# Altium schematic symbol library Amplifier_Operational.SchLib: 414 symbols (part 2 of 5)
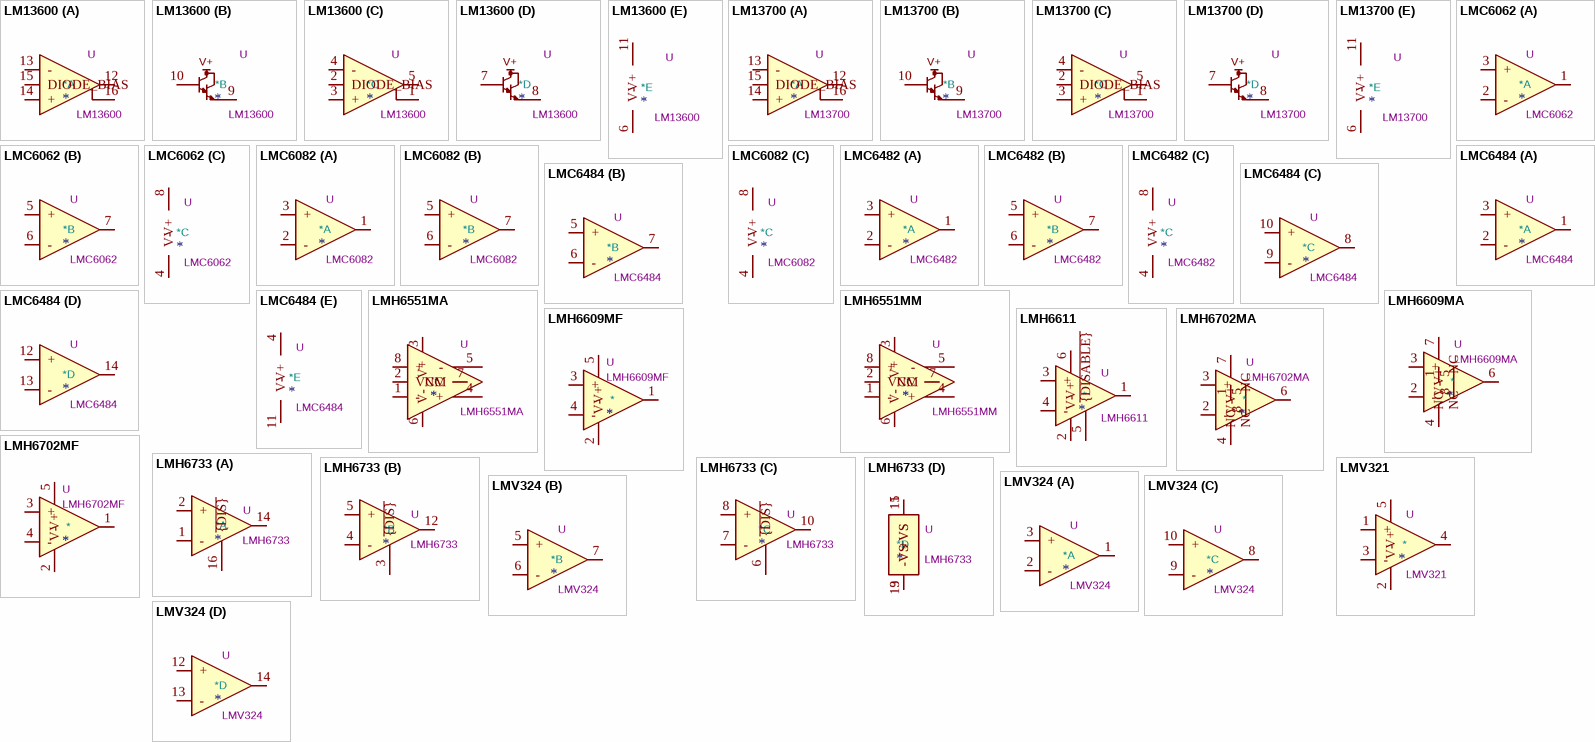
[diagram p24: symbols LM13600 to LMV324]

## LMC6082
designator *  value LMC6082  Reference: U
Precision CMOS Dual Operational Amplifier, DIP-8/SOIC-8; ki_keywords: dual opamp; ki_fp_filters: SOIC*3.9x4.9mm*P1.27mm* DIP*W7.62mm* TO*99* OnSemi*Micro8* TSSOP*3x3mm*P0.65mm* TSSOP*4.4x3mm*P0.65mm* MSOP*3x3mm*P0.65mm* SSOP*3.9x4.9mm*P0.635mm* LFCSP*2x2mm*P0.5mm* *SIP* SOIC*5.3x6.2mm*P1.27mm*; Datasheet: http://www.ti.com/lit/ds/symlink/lmc6082.pdf; Description_: Precision CMOS Dual Operational Amplifier, DIP-8/SOIC-8
part A pins: 1, 2 -, 3 +
part B pins: 5 +, 6 -, 7
part C pins: 4 V-, 8 V+

## LMC6482
designator *  value LMC6482  Reference: U
Dual CMOS Rail-to-Rail Input and Output Operational Amplifier, DIP-8/SOIC-8, SSOP-8; ki_keywords: dual opamp; ki_fp_filters: SOIC*3.9x4.9mm*P1.27mm* DIP*W7.62mm* TO*99* OnSemi*Micro8* TSSOP*3x3mm*P0.65mm* TSSOP*4.4x3mm*P0.65mm* MSOP*3x3mm*P0.65mm* SSOP*3.9x4.9mm*P0.635mm* LFCSP*2x2mm*P0.5mm* *SIP* SOIC*5.3x6.2mm*P1.27mm*; Datasheet: http://www.ti.com/lit/ds/symlink/lmc6482.pdf; Description_: Dual CMOS Rail-to-Rail Input and Output Operational Amplifier, DIP-8/SOIC-8, SSOP-8
part A pins: 1, 2 -, 3 +
part B pins: 5 +, 6 -, 7
part C pins: 4 V-, 8 V+

## LMC6484
designator *  value LMC6484  Reference: U
Quad CMOS Rail-to-Rail Input and Output Operational Amplifier, DIP-14/SOIC-14; ki_keywords: quad opamp; ki_fp_filters: SOIC*3.9x8.7mm*P1.27mm* DIP*W7.62mm* TSSOP*4.4x5mm*P0.65mm* SSOP*5.3x6.2mm*P0.65mm* MSOP*3x3mm*P0.5mm*; Datasheet: http://www.ti.com/lit/ds/symlink/lmc6484.pdf; Description_: Quad CMOS Rail-to-Rail Input and Output Operational Amplifier, DIP-14/SOIC-14
part A pins: 1, 2 -, 3 +
part B pins: 5 +, 6 -, 7
part C pins: 8, 9 -, 10 +
part D pins: 12 +, 13 -, 14
part E pins: 4 V+, 11 V-

## LMH6551MA
designator *  value LMH6551MA  Reference: U
Differential, High-Speed, Op Amp, SOIC-8; ki_keywords: differential opamp operational amplifier; ki_fp_filters: SOIC*3.9x4.9mm*P1.27mm*; Footprint: Package_SO:SOIC-8_3.9x4.9mm_P1.27mm; Datasheet: http://www.ti.com/lit/ds/symlink/lmh6551.pdf; Description_: Differential, High-Speed, Op Amp, SOIC-8
pins: 1 -, 2 VCM, 3 V+, 4 +, 5 -, 6 V-, 7 NC, 8 +

## LMH6551MM
designator *  value LMH6551MM  Reference: U
Differential, High-Speed, Op Amp, VSSOP-8; ki_keywords: differential opamp operational amplifier; ki_fp_filters: VSSOP*3x3mm*P0.65mm*; Footprint: Package_SO:VSSOP-8_3x3mm_P0.65mm; Datasheet: http://www.ti.com/lit/ds/symlink/lmh6551.pdf; Description_: Differential, High-Speed, Op Amp, VSSOP-8
pins: 1 -, 2 VCM, 3 V+, 4 +, 5 -, 6 V-, 7 NC, 8 +

## LMH6609MA
designator *  value LMH6609MA  Reference: U
900MHz Voltage Feedback Op Amp, SOIC-8; ki_keywords: opamp single wideband unity-gain stable; ki_fp_filters: SOIC*3.9x4.9mm*P1.27mm*; Footprint: Package_SO:SOIC-8_3.9x4.9mm_P1.27mm; Datasheet: http://www.ti.com/lit/ds/symlink/lmh6609.pdf; Description_: 900MHz Voltage Feedback Op Amp, SOIC-8
pins: 1 NC, 2 -, 3 +, 4 V-, 5 NC, 6, 7 V+, 8 NC

## LMH6609MF
designator *  value LMH6609MF  Reference: U
900MHz Voltage Feedback Op Amp, SOT-23-5; ki_keywords: opamp single wideband unity-gain stable; ki_fp_filters: SOT?23*; Footprint: Package_TO_SOT_SMD:SOT-23-5; Datasheet: http://www.ti.com/lit/ds/symlink/lmh6609.pdf; Description_: 900MHz Voltage Feedback Op Amp, SOT-23-5
pins: 1, 2 V-, 3 +, 4 -, 5 V+

## LMH6611
designator *  value LMH6611  Reference: U
Single Supply, 345 MHz, Rail-to-Rail Output, Amplifier, TSOT-23-6; ki_keywords: opamp operational amplifier single; ki_fp_filters: TSOT*23*; Footprint: Package_TO_SOT_SMD:TSOT-23-6; Datasheet: http://www.ti.com/lit/ds/symlink/lmh6612.pdf; Description_: Single Supply, 345 MHz, Rail-to-Rail Output, Amplifier, TSOT-23-6
pins: 1, 2 V-, 3 +, 4 -, 5 ~{{DISABLE}}, 6 V+

## LMH6702MA
designator *  value LMH6702MA  Reference: U
1.7 GHz Ultra-Low Distortion Wideband Op Amp, SOIC-8; ki_keywords: opamp single low distortion wideband; ki_fp_filters: SOIC*3.9x4.9mm*P1.27mm*; Footprint: Package_SO:SOIC-8_3.9x4.9mm_P1.27mm; Datasheet: http://www.ti.com/lit/ds/symlink/lmh6702.pdf; Description_: 1.7 GHz Ultra-Low Distortion Wideband Op Amp, SOIC-8
pins: 1 NC, 2 -, 3 +, 4 V-, 5 NC, 6, 7 V+, 8 NC

## LMH6702MF
designator *  value LMH6702MF  Reference: U
1.7 GHz Ultra-Low Distortion Wideband Op Amp, SOT-23-5; ki_keywords: opamp single low distortion wideband; ki_fp_filters: SOT?23*; Footprint: Package_TO_SOT_SMD:SOT-23-5; Datasheet: http://www.ti.com/lit/ds/symlink/lmh6702.pdf; Description_: 1.7 GHz Ultra-Low Distortion Wideband Op Amp, SOT-23-5
pins: 1, 2 V-, 3 +, 4 -, 5 V+

## LMH6733
designator *  value LMH6733  Reference: U
1.0 GHz GBW Triple Operational Amplifier, 3..12V single supply or ±1.5V...6V dual supply , SSOP-16; ki_keywords: opamp rf hf; ki_fp_filters: SSOP*P0.635mm*; Footprint: Package_SO:SSOP-16_3.9x4.9mm_P0.635mm; Datasheet: https://www.ti.com/lit/ds/symlink/lmh6733.pdf; Description_: 1.0 GHz GBW Triple Operational Amplifier, 3..12V single supply or ±1.5V...6V dual supply , SSOP-16
part A pins: 1 -, 2 +, 14, 16 ~{{DIS}}
part B pins: 3 ~{{DIS}}, 4 -, 5 +, 12
part C pins: 6 ~{{DIS}}, 7 -, 8 +, 10
part D pins: 9 -VS, 11 +VS, 13 -VS, 15 +VS

## LMV321
designator *  value LMV321  Reference: U
Low-Voltage Rail-to-Rail Output Operational Amplifiers, SOT-23-5/SC-70-5; ki_keywords: single opamp; ki_fp_filters: SOT?23* *SC*70*; Datasheet: http://www.ti.com/lit/ds/symlink/lmv324.pdf; Description_: Low-Voltage Rail-to-Rail Output Operational Amplifiers, SOT-23-5/SC-70-5
pins: 1 +, 2 V-, 3 -, 4, 5 V+

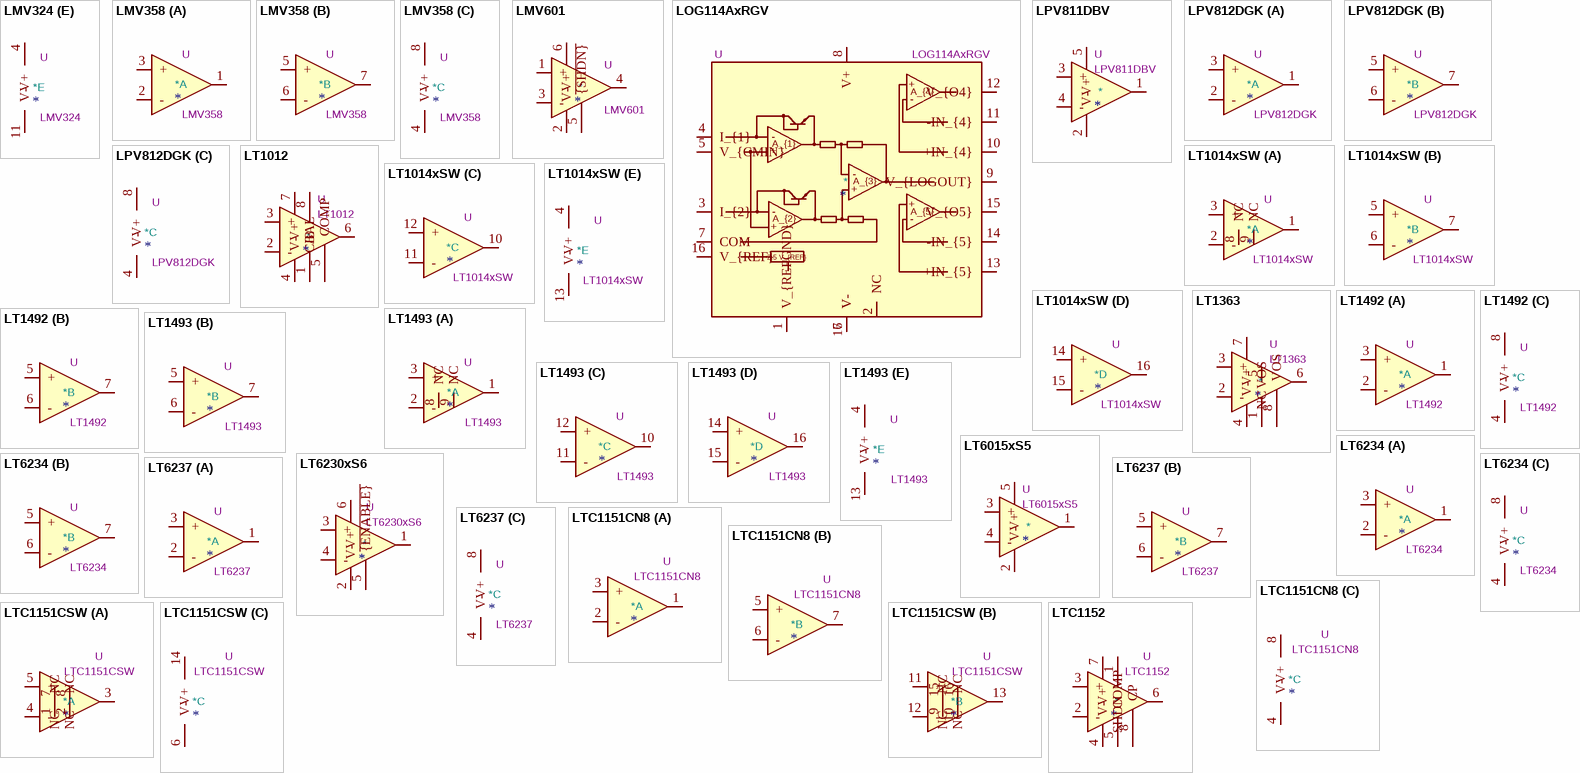
[diagram p6: symbols LMV324 to LTC1152]

## LMV324
designator *  value LMV324  Reference: U
Quad Low-Voltage Rail-to-Rail Output Operational Amplifier, SOIC-14/SSOP-14; ki_keywords: quad opamp; ki_fp_filters: SOIC*3.9x8.7mm*P1.27mm* DIP*W7.62mm* TSSOP*4.4x5mm*P0.65mm* SSOP*5.3x6.2mm*P0.65mm* MSOP*3x3mm*P0.5mm*; Datasheet: http://www.ti.com/lit/ds/symlink/lmv324.pdf; Description_: Quad Low-Voltage Rail-to-Rail Output Operational Amplifier, SOIC-14/SSOP-14
part A pins: 1, 2 -, 3 +
part B pins: 5 +, 6 -, 7
part C pins: 8, 9 -, 10 +
part D pins: 12 +, 13 -, 14
part E pins: 4 V+, 11 V-

## LMV358
designator *  value LMV358  Reference: U
Dual Low-Voltage Rail-to-Rail Output Operational Amplifiers, SOIC-8/SSOP-8; ki_keywords: single opamp; ki_fp_filters: SOIC*3.9x4.9mm*P1.27mm* DIP*W7.62mm* TO*99* OnSemi*Micro8* TSSOP*3x3mm*P0.65mm* TSSOP*4.4x3mm*P0.65mm* MSOP*3x3mm*P0.65mm* SSOP*3.9x4.9mm*P0.635mm* LFCSP*2x2mm*P0.5mm* *SIP* SOIC*5.3x6.2mm*P1.27mm*; Datasheet: http://www.ti.com/lit/ds/symlink/lmv324.pdf; Description_: Dual Low-Voltage Rail-to-Rail Output Operational Amplifiers, SOIC-8/SSOP-8
part A pins: 1, 2 -, 3 +
part B pins: 5 +, 6 -, 7
part C pins: 4 V-, 8 V+

## LMV601
designator *  value LMV601  Reference: U
1MHz, Low-Power, General-Purpose, 2.7V Operational Amplifiers, SC-70-6; ki_keywords: single opamp; ki_fp_filters: *SC*70*; Footprint: Package_TO_SOT_SMD:SOT-363_SC-70-6; Datasheet: http://www.ti.com/lit/ds/symlink/lmv601.pdf; Description_: 1MHz, Low-Power, General-Purpose, 2.7V Operational Amplifiers, SC-70-6
pins: 1 +, 2 V-, 3 -, 4, 5 ~{{SHDN}}, 6 V+

## LOG114AxRGV
designator *  value LOG114AxRGV  Reference: U
Logarithmic difference amplifer, Transimpedance input, 100pA to 10mA, integrated 2.5V reference, single or dual supply: +-5V, +5V, VQFN-16; ki_keywords: logamp texas ti tia; ki_fp_filters: Texas*RGV0016A*; Footprint: Package_DFN_QFN:Texas_RGV0016A_VQFN-16-1EP_4x4mm_P0.65mm_EP2.1x2.1mm; Datasheet: https://www.ti.com/lit/ds/symlink/log114.pdf; Description_: Logarithmic difference amplifer, Transimpedance input, 100pA to 10mA, integrated 2.5V reference, single or dual supply: +-5V, +5V, VQFN-16
pins: 1 V_{REFGND}, 2 NC, 3 I_{2}, 4 I_{1}, 5 V_{CMIN}, 6 V-, 7 COM, 8 V+, 9 V_{LOGOUT}, 10 +IN_{4}, 11 -IN_{4}, 12 V_{O4}, 13 +IN_{5}, 14 -IN_{5}, 15 V_{O5}, 16 V_{REF}, 17 V-
text: +; A_{4}; -; A_{1}; A_{3}; A_{5}; A_{2}; 2.5 V_{REF}

## LPV811DBV
designator *  value LPV811DBV  Reference: U
Single operational amplifier, 8kHz GBW, 425 nA/channel quiescent, 100 fA input bias, 300 uV offset max, 1 uV/C, SOT-23-5; ki_keywords: single opamp low-power rail-to-rail; ki_fp_filters: SOT?23*; Footprint: Package_TO_SOT_SMD:SOT-23-5; Datasheet: https://www.ti.com/lit/ds/symlink/lpv812.pdf; Description_: Single operational amplifier, 8kHz GBW, 425 nA/channel quiescent, 100 fA input bias, 300 uV offset max, 1 uV/C, SOT-23-5
pins: 1, 2 V-, 3 +, 4 -, 5 V+

## LPV812DGK
designator *  value LPV812DGK  Reference: U
Dual operational amplifier, 8kHz GBW, 425 nA/channel quiescent, 100 fA input bias, 300 uV offset max, 1 uV/C, VSSOP-8; ki_keywords: dual opamp low-power rail-to-rail; ki_fp_filters: VSSOP*3x3mm*P0.65mm*; Footprint: Package_SO:VSSOP-8_3x3mm_P0.65mm; Datasheet: https://www.ti.com/lit/ds/symlink/lpv812.pdf; Description_: Dual operational amplifier, 8kHz GBW, 425 nA/channel quiescent, 100 fA input bias, 300 uV offset max, 1 uV/C, VSSOP-8
part A pins: 1, 2 -, 3 +
part B pins: 5 +, 6 -, 7
part C pins: 4 V-, 8 V+

## LT1012
designator *  value LT1012  Reference: U
Single Picoamp Input Current, Microvolt Offset, Low Noise Op Amp, DIP-8/SOIC-8/TO-5-8; ki_keywords: single opamp; ki_fp_filters: DIP*W7.62mm* SOIC*3.9x4.9mm*P1.27mm* TO?5*; Datasheet: https://www.analog.com/media/en/technical-documentation/data-sheets/lt1012.pdf; Description_: Single Picoamp Input Current, Microvolt Offset, Low Noise Op Amp, DIP-8/SOIC-8/TO-5-8
pins: 1 BAL, 2 -, 3 +, 4 V-, 5 COMP, 6, 7 V+, 8 C/B

## LT1014xSW
designator *  value LT1014xSW  Reference: U
Quad Precision Op-Amp, 150µV max offset voltage, SOIC-16; ki_keywords: Linear-Technology operational-amplifier; ki_fp_filters: *SOIC*7.5x10.3mm*P1.27mm*; Footprint: Package_SO:SOIC-16W_7.5x10.3mm_P1.27mm; Datasheet: https://www.analog.com/media/en/technical-documentation/data-sheets/lt1013-lt1014.pdf; Description_: Quad Precision Op-Amp, 150µV max offset voltage, SOIC-16
part A pins: 1, 2 -, 3 +, 8 NC, 9 NC
part B pins: 5 +, 6 -, 7
part C pins: 10, 11 -, 12 +
part D pins: 14 +, 15 -, 16
part E pins: 4 V+, 13 V-

## LT1363
designator *  value LT1363  Reference: U
70MHz, 1000V/µs Operational Amplifier, DIP-8/SOIC-8; ki_keywords: single opamp; ki_fp_filters: DIP*W7.62mm* SOIC*3.9x4.9mm*P1.27mm* TO*99*; Datasheet: https://www.analog.com/media/en/technical-documentation/data-sheets/1363fa.pdf; Description_: 70MHz, 1000V/µs Operational Amplifier, DIP-8/SOIC-8
pins: 1 VOS, 2 -, 3 +, 4 V-, 5 NC, 6, 7 V+, 8 VOS

## LT1492
designator *  value LT1492  Reference: U
5MHz, 3V/µs, Low Power, Single Supply, Dual Precision Op Amps, DIP-8/SOIC-8; ki_keywords: dual opamp; ki_fp_filters: SOIC*3.9x4.9mm*P1.27mm* DIP*W7.62mm* TO*99* OnSemi*Micro8* TSSOP*3x3mm*P0.65mm* TSSOP*4.4x3mm*P0.65mm* MSOP*3x3mm*P0.65mm* SSOP*3.9x4.9mm*P0.635mm* LFCSP*2x2mm*P0.5mm* *SIP* SOIC*5.3x6.2mm*P1.27mm*; Datasheet: https://www.analog.com/media/en/technical-documentation/data-sheets/14923f.pdf; Description_: 5MHz, 3V/µs, Low Power, Single Supply, Dual Precision Op Amps, DIP-8/SOIC-8
part A pins: 1, 2 -, 3 +
part B pins: 5 +, 6 -, 7
part C pins: 4 V-, 8 V+

## LT1493
designator *  value LT1493  Reference: U
5MHz, 3V/µs, Low Power, Single Supply, Quad Precision Op Amps, SOIC-16; ki_keywords: quad opamp; ki_fp_filters: SSOP*3.9x4.9mm*P0.635mm* SOIC*3.9x9.9mm*P1.27mm* QSOP*3.9x4.9mm*P0.635mm*; Datasheet: https://www.analog.com/media/en/technical-documentation/data-sheets/14923f.pdf; Description_: 5MHz, 3V/µs, Low Power, Single Supply, Quad Precision Op Amps, SOIC-16
part A pins: 1, 2 -, 3 +, 8 NC, 9 NC
part B pins: 5 +, 6 -, 7
part C pins: 10, 11 -, 12 +
part D pins: 14 +, 15 -, 16
part E pins: 4 V+, 13 V-

## LT6015xS5
designator *  value LT6015xS5  Reference: U
3.2MHz, 0.8V/us, Low Power, Over-The-Top Precision Op Amp, SOT-23-5; ki_keywords: single opamp; ki_fp_filters: SOT?23*; Footprint: Package_TO_SOT_SMD:SOT-23-5; Datasheet: https://www.analog.com/media/en/technical-documentation/data-sheets/601567ff.pdf; Description_: 3.2MHz, 0.8V/us, Low Power, Over-The-Top Precision Op Amp, SOT-23-5
pins: 1, 2 V-, 3 +, 4 -, 5 V+

## LT6230xS6
designator *  value LT6230xS6  Reference: U
215 MHz, Rail-to-Rail Output, Amplifier, TSOT-23-6; ki_keywords: opamp operational amplifier single; ki_fp_filters: TSOT*23*; Footprint: Package_TO_SOT_SMD:TSOT-23-6; Datasheet: https://www.analog.com/media/en/technical-documentation/data-sheets/623012fc.pdf; Description_: 215 MHz, Rail-to-Rail Output, Amplifier, TSOT-23-6
pins: 1, 2 V-, 3 +, 4 -, 5 ~{{ENABLE}}, 6 V+

## LT6234
designator *  value LT6234  Reference: U
Dual 60MHz, Rail-to-Rail Output, 1.9nV/√Hz, 1.2mA, Operational Amplifier, SOIC-8; ki_keywords: dual opamp; ki_fp_filters: SOIC*3.9x4.9mm*P1.27mm* DIP*W7.62mm* TO*99* OnSemi*Micro8* TSSOP*3x3mm*P0.65mm* TSSOP*4.4x3mm*P0.65mm* MSOP*3x3mm*P0.65mm* SSOP*3.9x4.9mm*P0.635mm* LFCSP*2x2mm*P0.5mm* *SIP* SOIC*5.3x6.2mm*P1.27mm*; Datasheet: https://www.analog.com/media/en/technical-documentation/data-sheets/623345fc.pdf; Description_: Dual 60MHz, Rail-to-Rail Output, 1.9nV/√Hz, 1.2mA, Operational Amplifier, SOIC-8
part A pins: 1, 2 -, 3 +
part B pins: 5 +, 6 -, 7
part C pins: 4 V-, 8 V+

## LT6237
designator *  value LT6237  Reference: U
Dual 215MHz, Rail-to-Rail Output, 1.1nV/√Hz, 3.5mA, Operational Amplifier, MSOP-8/DFN-8; ki_keywords: dual opamp; ki_fp_filters: SOIC*3.9x4.9mm*P1.27mm* DIP*W7.62mm* TO*99* OnSemi*Micro8* TSSOP*3x3mm*P0.65mm* TSSOP*4.4x3mm*P0.65mm* MSOP*3x3mm*P0.65mm* SSOP*3.9x4.9mm*P0.635mm* LFCSP*2x2mm*P0.5mm* *SIP* SOIC*5.3x6.2mm*P1.27mm*; Datasheet: https://www.analog.com/media/en/technical-documentation/data-sheets/623637fb.pdf; Description_: Dual 215MHz, Rail-to-Rail Output, 1.1nV/√Hz, 3.5mA, Operational Amplifier, MSOP-8/DFN-8
part A pins: 1, 2 -, 3 +
part B pins: 5 +, 6 -, 7
part C pins: 4 V-, 8 V+

## LTC1151CN8
designator *  value LTC1151CN8  Reference: U
Dual ±15V, Zero-Drift, Operational Amplifier, DIP-8; ki_keywords: dual opamp; ki_fp_filters: DIP*W7.62mm*; Footprint: Package_DIP:DIP-8_W7.62mm; Datasheet: https://www.analog.com/media/en/technical-documentation/data-sheets/1151fa.pdf; Description_: Dual ±15V, Zero-Drift, Operational Amplifier, DIP-8
part A pins: 1, 2 -, 3 +
part B pins: 5 +, 6 -, 7
part C pins: 4 V-, 8 V+

## LTC1151CSW
designator *  value LTC1151CSW  Reference: U
Dual ±15V, Zero-Drift, Operational Amplifier, SOIC-16W; ki_keywords: dual opamp; ki_fp_filters: SOIC*7.5x10.3mm*P1.27mm*; Footprint: Package_SO:SOIC-16W_7.5x10.3mm_P1.27mm; Datasheet: https://www.analog.com/media/en/technical-documentation/data-sheets/1151fa.pdf; Description_: Dual ±15V, Zero-Drift, Operational Amplifier, SOIC-16W
part A pins: 1 NC, 2 NC, 3, 4 -, 5 +, 7 NC, 8 NC
part B pins: 9 NC, 10 NC, 11 +, 12 -, 13, 15 NC, 16 NC
part C pins: 6 V-, 14 V+

## LTC1152
designator *  value LTC1152  Reference: U
Rail-to-Rail Input, Rail-to-Rail Output, Zero-Drift Op Amp, DIP-8, SOIC-8; ki_keywords: single opamp; ki_fp_filters: SOIC*3.9x4.9mm*P1.27mm* DIP*W7.62mm*; Datasheet: https://www.analog.com/media/en/technical-documentation/data-sheets/lt1152.pdf; Description_: Rail-to-Rail Input, Rail-to-Rail Output, Zero-Drift Op Amp, DIP-8, SOIC-8
pins: 1 SHDN, 2 -, 3 +, 4 V-, 5 COMP, 6, 7 V+, 8 CP

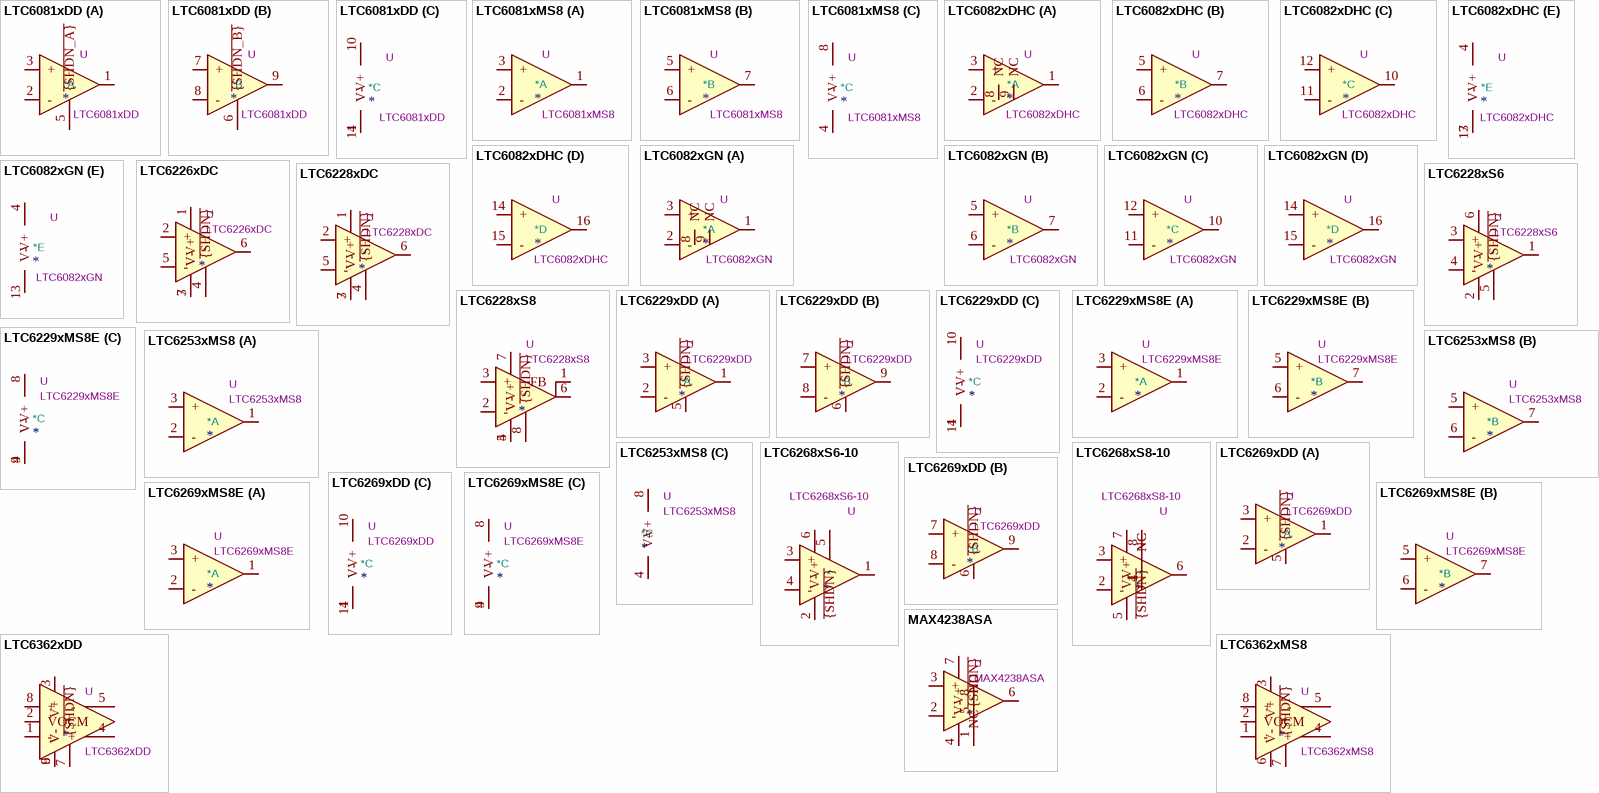
[diagram p7: symbols LTC6081xDD to MAX4238ASA]

## LTC6081xDD
designator *  value LTC6081xDD  Reference: U
Precision Dual CMOS Rail-to-Rail Input/Output Amplifiers, DFN-10; ki_keywords: dual opamp; ki_fp_filters: DFN*3x3mm*P0.5mm*; Footprint: Package_DFN_QFN:DFN-10-1EP_3x3mm_P0.5mm_EP1.55x2.48mm; Datasheet: https://www.analog.com/media/en/technical-documentation/data-sheets/60812fd.pdf; Description_: Precision Dual CMOS Rail-to-Rail Input/Output Amplifiers, DFN-10
part A pins: 1, 2 -, 3 +, 5 ~{{SHDN_A}}
part B pins: 6 ~{{SHDN_B}}, 7 +, 8 -, 9
part C pins: 4 V-, 10 V+, 11 V-

## LTC6081xMS8
designator *  value LTC6081xMS8  Reference: U
Precision Dual CMOS Rail-to-Rail Input/Output Amplifiers, MSOP-8; ki_keywords: dual opamp; ki_fp_filters: SOIC*3.9x4.9mm*P1.27mm* DIP*W7.62mm* TO*99* OnSemi*Micro8* TSSOP*3x3mm*P0.65mm* TSSOP*4.4x3mm*P0.65mm* MSOP*3x3mm*P0.65mm* SSOP*3.9x4.9mm*P0.635mm* LFCSP*2x2mm*P0.5mm* *SIP* SOIC*5.3x6.2mm*P1.27mm*; Datasheet: https://www.analog.com/media/en/technical-documentation/data-sheets/60812fd.pdf; Description_: Precision Dual CMOS Rail-to-Rail Input/Output Amplifiers, MSOP-8
part A pins: 1, 2 -, 3 +
part B pins: 5 +, 6 -, 7
part C pins: 4 V-, 8 V+

## LTC6082xDHC
designator *  value LTC6082xDHC  Reference: U
Precision Quad CMOS Rail-to-Rail Input/Output Amplifiers, DFN-16; ki_keywords: quad opamp; ki_fp_filters: DFN*3x5mm*P0.5mm*; Footprint: Package_DFN_QFN:DFN-16-1EP_3x5mm_P0.5mm_EP1.66x4.4mm; Datasheet: https://www.analog.com/media/en/technical-documentation/data-sheets/60812fd.pdf; Description_: Precision Quad CMOS Rail-to-Rail Input/Output Amplifiers, DFN-16
part A pins: 1, 2 -, 3 +, 8 NC, 9 NC
part B pins: 5 +, 6 -, 7
part C pins: 10, 11 -, 12 +
part D pins: 14 +, 15 -, 16
part E pins: 4 V+, 13 V-, 17 V-

## LTC6082xGN
designator *  value LTC6082xGN  Reference: U
Precision Quad CMOS Rail-to-Rail Input/Output Amplifiers, SSOP-16; ki_keywords: quad opamp; ki_fp_filters: SSOP*3.9x4.9mm*P0.635mm* SOIC*3.9x9.9mm*P1.27mm* QSOP*3.9x4.9mm*P0.635mm*; Datasheet: https://www.analog.com/media/en/technical-documentation/data-sheets/60812fd.pdf; Description_: Precision Quad CMOS Rail-to-Rail Input/Output Amplifiers, SSOP-16
part A pins: 1, 2 -, 3 +, 8 NC, 9 NC
part B pins: 5 +, 6 -, 7
part C pins: 10, 11 -, 12 +
part D pins: 14 +, 15 -, 16
part E pins: 4 V+, 13 V-

## LTC6226xDC
designator *  value LTC6226xDC  Reference: U
420MHz GBW, 180V/μs, 1nV/√Hz, RRO, 95μV max offset, 2.8..11.75V OpAmp with shutdown, WDFN-6 (WSON-6); ki_keywords: single operational amplifier Linear-Technology Analog-Devices Low-Distortion Rail-to-Rail-Output; ki_fp_filters: *DFN*2x2mm*P0.5mm*EP0.6x1.37mm*; Footprint: Package_DFN_QFN:DFN-6-1EP_2x2mm_P0.5mm_EP0.6x1.37mm; Datasheet: https://www.analog.com/media/en/technical-documentation/data-sheets/ltc6226-6227.pdf; Description_: 420MHz GBW, 180V/μs, 1nV/√Hz, RRO, 95μV max offset, 2.8..11.75V OpAmp with shutdown, WDFN-6 (WSON-6)
pins: 1 V+, 2 +, 3 V-, 4 ~{{SHDN}}, 5 -, 6, 7 V-

## LTC6228xDC
designator *  value LTC6228xDC  Reference: U
Low Distortion Rail-to-Rail Output Op Amp with Shutdown, DFN-6; ki_keywords: single opamp; ki_fp_filters: DFN*1EP*2x2mm*P0.5mm*; Footprint: Package_DFN_QFN:DFN-6-1EP_2x2mm_P0.5mm_EP0.6x1.37mm; Datasheet: https://www.analog.com/media/en/technical-documentation/data-sheets/LTC6228-6229.pdf; Description_: Low Distortion Rail-to-Rail Output Op Amp with Shutdown, DFN-6
pins: 1 V+, 2 +, 3 V-, 4 ~{{SHDN}}, 5 -, 6, 7 V-

## LTC6228xS6
designator *  value LTC6228xS6  Reference: U
Low Distortion Rail-to-Rail Output Op Amp with Shutdown, TSOT-23-6; ki_keywords: single opamp; ki_fp_filters: TSOT?23*; Footprint: Package_TO_SOT_SMD:TSOT-23-6; Datasheet: https://www.analog.com/media/en/technical-documentation/data-sheets/LTC6228-6229.pdf; Description_: Low Distortion Rail-to-Rail Output Op Amp with Shutdown, TSOT-23-6
pins: 1, 2 V-, 3 +, 4 -, 5 ~{{SHDN}}, 6 V+

## LTC6228xS8
designator *  value LTC6228xS8  Reference: U
Low Distortion Rail-to-Rail Output Op Amp with Shutdown, SO-8; ki_keywords: single opamp; ki_fp_filters: SO*3.9x4.9mm*P1.27mm*; Footprint: Package_SO:SO-8_3.9x4.9mm_P1.27mm; Datasheet: https://www.analog.com/media/en/technical-documentation/data-sheets/LTC6228-6229.pdf; Description_: Low Distortion Rail-to-Rail Output Op Amp with Shutdown, SO-8
pins: 1 FB, 2 -, 3 +, 4 V-, 5 V-, 6, 7 V+, 8 ~{{SHDN}}

## LTC6229xDD
designator *  value LTC6229xDD  Reference: U
Low Distortion Rail-to-Rail Output Op Amps with Shutdown, DFN-10; ki_keywords: dual opamp; ki_fp_filters: *DFN*1EP*3x3mm*P0.5mm*EP1.65x2.38mm*; Footprint: Package_DFN_QFN:DFN-10-1EP_3x3mm_P0.5mm_EP1.65x2.38mm; Datasheet: https://www.analog.com/media/en/technical-documentation/data-sheets/LTC6228-6229.pdf; Description_: Low Distortion Rail-to-Rail Output Op Amps with Shutdown, DFN-10
part A pins: 1, 2 -, 3 +, 5 ~{{SHDN}}
part B pins: 6 ~{{SHDN}}, 7 +, 8 -, 9
part C pins: 4 V-, 10 V+, 11 V-

## LTC6229xMS8E
designator *  value LTC6229xMS8E  Reference: U
Low Distortion Rail-to-Rail Output Op Amps with Shutdown, MSOP-8; ki_keywords: dual opamp; ki_fp_filters: MSOP*1EP*3x3mm*P0.65mm*; Footprint: Package_SO:MSOP-8-1EP_3x3mm_P0.65mm_EP1.68x1.88mm; Datasheet: https://www.analog.com/media/en/technical-documentation/data-sheets/LTC6228-6229.pdf; Description_: Low Distortion Rail-to-Rail Output Op Amps with Shutdown, MSOP-8
part A pins: 1, 2 -, 3 +
part B pins: 5 +, 6 -, 7
part C pins: 4 V-, 8 V+, 9 V-

## LTC6253xMS8
designator *  value LTC6253xMS8  Reference: U
720MHz, 3.5mA Power Efficient, Rail-to-Rail Op Amp, MSOP-8; ki_keywords: dual opamp low-power; ki_fp_filters: MSOP*3x3mm*P0.65mm*; Footprint: Package_SO:MSOP-8_3x3mm_P0.65mm; Datasheet: https://www.analog.com/media/en/technical-documentation/data-sheets/625234fc.pdf; Description_: 720MHz, 3.5mA Power Efficient, Rail-to-Rail Op Amp, MSOP-8
part A pins: 1, 2 -, 3 +
part B pins: 5 +, 6 -, 7
part C pins: 4 V-, 8 V+

## LTC6268xS6-10
designator *  value LTC6268xS6-10  Reference: U
500Mhz, Ultra-Low Bias Current, FET Input, Op Amp, TSOT-23; ki_keywords: single opamp transimpedance; ki_fp_filters: TSOT?23*; Footprint: Package_TO_SOT_SMD:TSOT-23-6; Datasheet: https://www.analog.com/media/en/technical-documentation/data-sheets/626810f.pdf; Description_: 500Mhz, Ultra-Low Bias Current, FET Input, Op Amp, TSOT-23
pins: 1, 2 V-, 3 +, 4 -, 5 ~{{SHDN}}, 6 V+

## LTC6268xS8-10
designator *  value LTC6268xS8-10  Reference: U
500Mhz, Ultra-Low Bias Current, FET Input, Op Amp, SOIC-8; ki_keywords: single opamp transimpedance; ki_fp_filters: SO*3.9x4.9mm*P1.27mm*; Footprint: Package_SO:SO-8_3.9x4.9mm_P1.27mm; Datasheet: https://www.analog.com/media/en/technical-documentation/data-sheets/626810f.pdf; Description_: 500Mhz, Ultra-Low Bias Current, FET Input, Op Amp, SOIC-8
pins: 1 NC, 2 -, 3 +, 4 NC, 5 V-, 6, 7 V+, 8 ~{{SHDN}}

## LTC6269xDD
designator *  value LTC6269xDD  Reference: U
Dual 500MHz Ultra-Low Bias  Current FET Input Op Amps with Shutdown, DFN-10; ki_keywords: dual opamp; ki_fp_filters: *DFN*1EP*3x3mm*P0.5mm*EP1.65x2.38mm*; Footprint: Package_DFN_QFN:DFN-10-1EP_3x3mm_P0.5mm_EP1.65x2.38mm; Datasheet: https://www.analog.com/media/en/technical-documentation/data-sheets/62689f.pdf; Description_: Dual 500MHz Ultra-Low Bias  Current FET Input Op Amps with Shutdown, DFN-10
part A pins: 1, 2 -, 3 +, 5 ~{{SHDN}}
part B pins: 6 ~{{SHDN}}, 7 +, 8 -, 9
part C pins: 4 V-, 10 V+, 11 V-

## LTC6269xMS8E
designator *  value LTC6269xMS8E  Reference: U
Dual 500MHz Ultra-Low Bias  Current FET Input Op Amps, MSOP-8; ki_keywords: dual opamp; ki_fp_filters: MSOP*1EP*3x3mm*P0.65mm*; Footprint: Package_SO:MSOP-8-1EP_3x3mm_P0.65mm_EP1.68x1.88mm; Datasheet: https://www.analog.com/media/en/technical-documentation/data-sheets/62689f.pdf; Description_: Dual 500MHz Ultra-Low Bias  Current FET Input Op Amps, MSOP-8
part A pins: 1, 2 -, 3 +
part B pins: 5 +, 6 -, 7
part C pins: 4 V-, 8 V+, 9 V-

## LTC6362xDD
designator *  value LTC6362xDD  Reference: U
Precision, Low Power, Rail-to-Rail Input/Output, Differential Op Amp/SAR ADC Driver, DFN-8; ki_keywords: single differential opamp; ki_fp_filters: DFN*1EP*3x3mm*P0.5mm*; Footprint: Package_DFN_QFN:DFN-8-1EP_3x3mm_P0.5mm_EP1.66x2.38mm; Datasheet: https://www.analog.com/media/en/technical-documentation/data-sheets/6362fa.pdf; Description_: Precision, Low Power, Rail-to-Rail Input/Output, Differential Op Amp/SAR ADC Driver, DFN-8
pins: 1 -, 2 VOCM, 3 V+, 4 +, 5 -, 6 V-, 7 ~{{SHDN}}, 8 +, 9 V-

## LTC6362xMS8
designator *  value LTC6362xMS8  Reference: U
Precision, Low Power, Rail-to-Rail Input/Output, Differential Op Amp/SAR ADC Driver, DFN-8; ki_keywords: single differential opamp; ki_fp_filters: MSOP*3x3mm*P0.65mm*; Footprint: Package_SO:MSOP-8_3x3mm_P0.65mm; Datasheet: https://www.analog.com/media/en/technical-documentation/data-sheets/6362fa.pdf; Description_: Precision, Low Power, Rail-to-Rail Input/Output, Differential Op Amp/SAR ADC Driver, DFN-8
pins: 1 -, 2 VOCM, 3 V+, 4 +, 5 -, 6 V-, 7 ~{{SHDN}}, 8 +

## MAX4238ASA
designator *  value MAX4238ASA  Reference: U
Ultra-Low Offset/Drift, Low-Noise, Precision Amplifiers, SOIC-8; ki_keywords: single opamp; ki_fp_filters: SOIC*3.9x4.9mm*P1.27mm*; Footprint: Package_SO:SOIC-8_3.9x4.9mm_P1.27mm; Datasheet: http://datasheets.maximintegrated.com/en/ds/MAX4238-MAX4239.pdf; Description_: Ultra-Low Offset/Drift, Low-Noise, Precision Amplifiers, SOIC-8
pins: 1 ~{{SHDN}}, 2 -, 3 +, 4 V-, 5 NC, 6, 7 V+, 8 NC

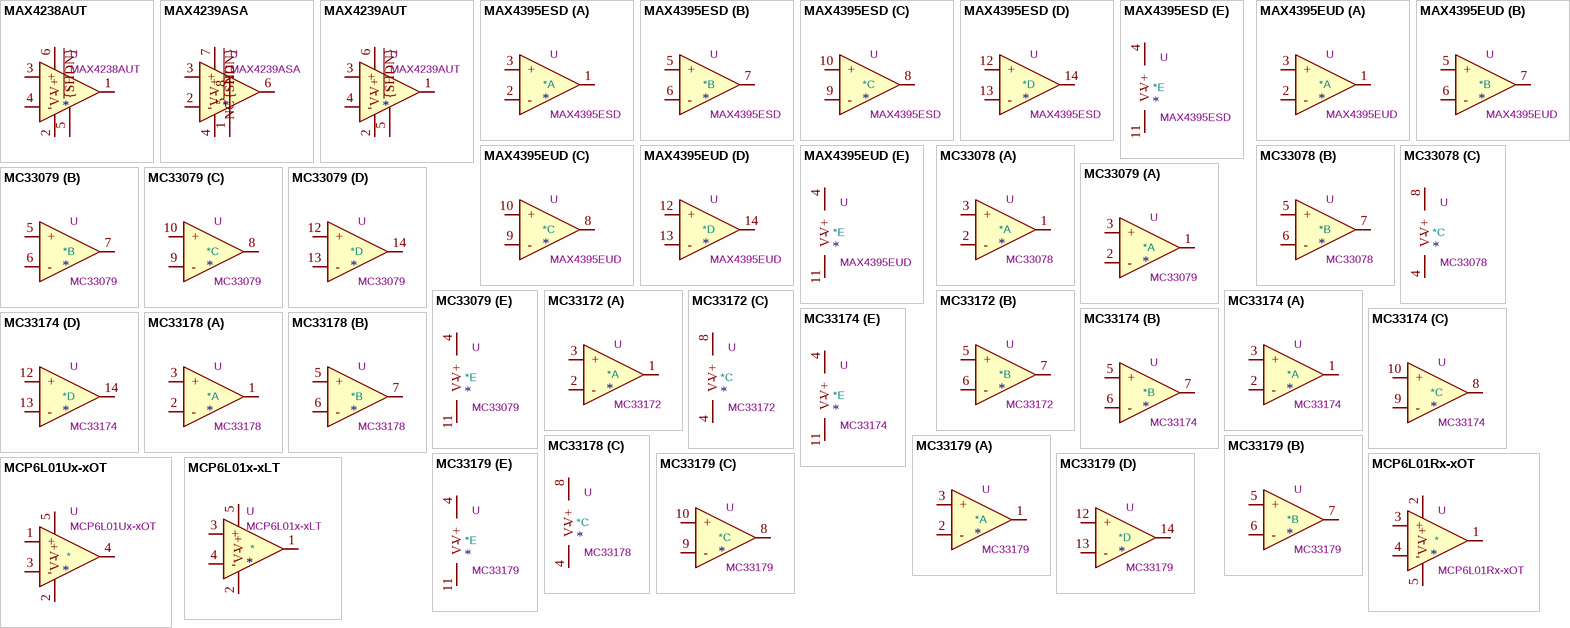
[diagram p8: symbols MAX4238AUT to MCP6L01x-xLT]

## MAX4238AUT
designator *  value MAX4238AUT  Reference: U
Ultra-Low Offset/Drift, Low-Noise, Precision Amplifiers, SOT-23-6; ki_keywords: single opamp; ki_fp_filters: SOT?23*; Footprint: Package_TO_SOT_SMD:SOT-23-6; Datasheet: http://datasheets.maximintegrated.com/en/ds/MAX4238-MAX4239.pdf; Description_: Ultra-Low Offset/Drift, Low-Noise, Precision Amplifiers, SOT-23-6
pins: 1, 2 V-, 3 +, 4 -, 5 ~{{SHDN}}, 6 V+

## MAX4239ASA
designator *  value MAX4239ASA  Reference: U
Ultra-Low Offset/Drift, Low-Noise, Precision Amplifiers, SOIC-8; ki_keywords: single opamp; ki_fp_filters: SOIC*3.9x4.9mm*P1.27mm*; Footprint: Package_SO:SOIC-8_3.9x4.9mm_P1.27mm; Datasheet: http://datasheets.maximintegrated.com/en/ds/MAX4238-MAX4239.pdf; Description_: Ultra-Low Offset/Drift, Low-Noise, Precision Amplifiers, SOIC-8
pins: 1 ~{{SHDN}}, 2 -, 3 +, 4 V-, 5 NC, 6, 7 V+, 8 NC

## MAX4239AUT
designator *  value MAX4239AUT  Reference: U
Ultra-Low Offset/Drift, Low-Noise, Precision Amplifiers, SOT-23-6; ki_keywords: single opamp; ki_fp_filters: SOT?23*; Footprint: Package_TO_SOT_SMD:SOT-23-6; Datasheet: http://datasheets.maximintegrated.com/en/ds/MAX4238-MAX4239.pdf; Description_: Ultra-Low Offset/Drift, Low-Noise, Precision Amplifiers, SOT-23-6
pins: 1, 2 V-, 3 +, 4 -, 5 ~{{SHDN}}, 6 V+

## MAX4395ESD
designator *  value MAX4395ESD  Reference: U
Ultra-Small, Low-Cost, 85MHz Quad Op Amp with Rail-to-Rail Outputs; ki_fp_filters: SO*3.9x8.65mm*P1.27mm*; Footprint: Package_SO:SO-14_3.9x8.65mm_P1.27mm; Datasheet: https://datasheets.maximintegrated.com/en/ds/MAX4389-MAX4396.pdf; Description_: Ultra-Small, Low-Cost, 85MHz Quad Op Amp with Rail-to-Rail Outputs; ki_keywords: quad opamp
part A pins: 1, 2 -, 3 +
part B pins: 5 +, 6 -, 7
part C pins: 8, 9 -, 10 +
part D pins: 12 +, 13 -, 14
part E pins: 4 V+, 11 V-

## MAX4395EUD
designator *  value MAX4395EUD  Reference: U
Ultra-Small, Low-Cost, 85MHz Quad Op Amp with Rail-to-Rail Outputs; ki_fp_filters: TSSOP*4.4x5mm*P0.65mm*; Footprint: Package_SO:TSSOP-14_4.4x5mm_P0.65mm; Datasheet: https://datasheets.maximintegrated.com/en/ds/MAX4389-MAX4396.pdf; Description_: Ultra-Small, Low-Cost, 85MHz Quad Op Amp with Rail-to-Rail Outputs; ki_keywords: quad opamp
part A pins: 1, 2 -, 3 +
part B pins: 5 +, 6 -, 7
part C pins: 8, 9 -, 10 +
part D pins: 12 +, 13 -, 14
part E pins: 4 V+, 11 V-

## MC33078
designator *  value MC33078  Reference: U
Low Noise, Dual Operational Amplifiers, DIP-8/SOIC-8/SSOP-8; ki_keywords: dual opamp; ki_fp_filters: SOIC*3.9x4.9mm*P1.27mm* DIP*W7.62mm* TO*99* OnSemi*Micro8* TSSOP*3x3mm*P0.65mm* TSSOP*4.4x3mm*P0.65mm* MSOP*3x3mm*P0.65mm* SSOP*3.9x4.9mm*P0.635mm* LFCSP*2x2mm*P0.5mm* *SIP* SOIC*5.3x6.2mm*P1.27mm*; Datasheet: https://www.onsemi.com/pub/Collateral/MC33078-D.PDF; Description_: Low Noise, Dual Operational Amplifiers, DIP-8/SOIC-8/SSOP-8
part A pins: 1, 2 -, 3 +
part B pins: 5 +, 6 -, 7
part C pins: 4 V-, 8 V+

## MC33079
designator *  value MC33079  Reference: U
Low Noise, Quad Operational Amplifiers, DIP-14/SOIC-14; ki_keywords: quad opamp; ki_fp_filters: SOIC*3.9x8.7mm*P1.27mm* DIP*W7.62mm* TSSOP*4.4x5mm*P0.65mm* SSOP*5.3x6.2mm*P0.65mm* MSOP*3x3mm*P0.5mm*; Datasheet: https://www.onsemi.com/pub/Collateral/MC33078-D.PDF; Description_: Low Noise, Quad Operational Amplifiers, DIP-14/SOIC-14
part A pins: 1, 2 -, 3 +
part B pins: 5 +, 6 -, 7
part C pins: 8, 9 -, 10 +
part D pins: 12 +, 13 -, 14
part E pins: 4 V+, 11 V-

## MC33172
designator *  value MC33172  Reference: U
Dual Single Supply 3.0V to 44V, Low Power Operational Amplifiers, DIP-8/SOIC-8; ki_keywords: dual opamp; ki_fp_filters: SOIC*3.9x4.9mm*P1.27mm* DIP*W7.62mm* TO*99* OnSemi*Micro8* TSSOP*3x3mm*P0.65mm* TSSOP*4.4x3mm*P0.65mm* MSOP*3x3mm*P0.65mm* SSOP*3.9x4.9mm*P0.635mm* LFCSP*2x2mm*P0.5mm* *SIP* SOIC*5.3x6.2mm*P1.27mm*; Datasheet: http://www.onsemi.com/pub/Collateral/MC33171-D.PDF; Description_: Dual Single Supply 3.0V to 44V, Low Power Operational Amplifiers, DIP-8/SOIC-8
part A pins: 1, 2 -, 3 +
part B pins: 5 +, 6 -, 7
part C pins: 4 V-, 8 V+

## MC33174
designator *  value MC33174  Reference: U
Quad Single Supply 3.0V to 44V, Low Power Operational Amplifiers, DIP-14/SOIC-14/TSSOP-14; ki_keywords: quad opamp; ki_fp_filters: SOIC*3.9x8.7mm*P1.27mm* DIP*W7.62mm* TSSOP*4.4x5mm*P0.65mm* SSOP*5.3x6.2mm*P0.65mm* MSOP*3x3mm*P0.5mm*; Datasheet: http://www.onsemi.com/pub/Collateral/MC33171-D.PDF; Description_: Quad Single Supply 3.0V to 44V, Low Power Operational Amplifiers, DIP-14/SOIC-14/TSSOP-14
part A pins: 1, 2 -, 3 +
part B pins: 5 +, 6 -, 7
part C pins: 8, 9 -, 10 +
part D pins: 12 +, 13 -, 14
part E pins: 4 V+, 11 V-

## MC33178
designator *  value MC33178  Reference: U
Dual Low Power, Low Noise Operational Amplifiers, DIP-8/SOIC-8/SSOP-8; ki_keywords: dual opamp; ki_fp_filters: SOIC*3.9x4.9mm*P1.27mm* DIP*W7.62mm* TO*99* OnSemi*Micro8* TSSOP*3x3mm*P0.65mm* TSSOP*4.4x3mm*P0.65mm* MSOP*3x3mm*P0.65mm* SSOP*3.9x4.9mm*P0.635mm* LFCSP*2x2mm*P0.5mm* *SIP* SOIC*5.3x6.2mm*P1.27mm*; Datasheet: https://www.onsemi.com/pub/Collateral/MC33178-D.PDF; Description_: Dual Low Power, Low Noise Operational Amplifiers, DIP-8/SOIC-8/SSOP-8
part A pins: 1, 2 -, 3 +
part B pins: 5 +, 6 -, 7
part C pins: 4 V-, 8 V+

## MC33179
designator *  value MC33179  Reference: U
Quad Low Power, Low Noise Operational Amplifiers, DIP-14/SOIC-14/SSOP-14; ki_keywords: quad opamp; ki_fp_filters: SOIC*3.9x8.7mm*P1.27mm* DIP*W7.62mm* TSSOP*4.4x5mm*P0.65mm* SSOP*5.3x6.2mm*P0.65mm* MSOP*3x3mm*P0.5mm*; Datasheet: https://www.onsemi.com/pub/Collateral/MC33178-D.PDF; Description_: Quad Low Power, Low Noise Operational Amplifiers, DIP-14/SOIC-14/SSOP-14
part A pins: 1, 2 -, 3 +
part B pins: 5 +, 6 -, 7
part C pins: 8, 9 -, 10 +
part D pins: 12 +, 13 -, 14
part E pins: 4 V+, 11 V-

## MCP6L01Rx-xOT
designator *  value MCP6L01Rx-xOT  Reference: U
Single, 1 MHz, 85µA, Rail-to-Rail input and output, SOT-23-5; ki_keywords: opamp vfa r2r rtr; ki_fp_filters: SOT?23*; Footprint: Package_TO_SOT_SMD:SOT-23-5; Datasheet: https://ww1.microchip.com/downloads/aemDocuments/documents/MSLD/ProductDocuments/DataSheets/MCP6L01-1R-1U-2-4-1-MHz-85-uA-Op-Amps-DS20002140D.pdf; Description_: Single, 1 MHz, 85µA, Rail-to-Rail input and output, SOT-23-5
pins: 1, 2 V+, 3 +, 4 -, 5 V-

## MCP6L01Ux-xOT
designator *  value MCP6L01Ux-xOT  Reference: U
Single, 1 MHz, 85µA, Rail-to-Rail input and output, SOT-23-5; ki_keywords: opamp vfa r2r rtr; ki_fp_filters: SOT?23*; Footprint: Package_TO_SOT_SMD:SOT-23-5; Datasheet: http://ww1.microchip.com/downloads/en/devicedoc/22140b.pdf; Description_: Single, 1 MHz, 85µA, Rail-to-Rail input and output, SOT-23-5
pins: 1 +, 2 V-, 3 -, 4, 5 V+

## MCP6L01x-xLT
designator *  value MCP6L01x-xLT  Reference: U
Single, 1 MHz, Rail-to-Rail input and output, SC-70-5; ki_keywords: opamp vfa r2r rtr; ki_fp_filters: *SC?70*; Footprint: Package_TO_SOT_SMD:SOT-353_SC-70-5; Datasheet: http://ww1.microchip.com/downloads/en/devicedoc/22140b.pdf; Description_: Single, 1 MHz, Rail-to-Rail input and output, SC-70-5
pins: 1, 2 V-, 3 +, 4 -, 5 V+

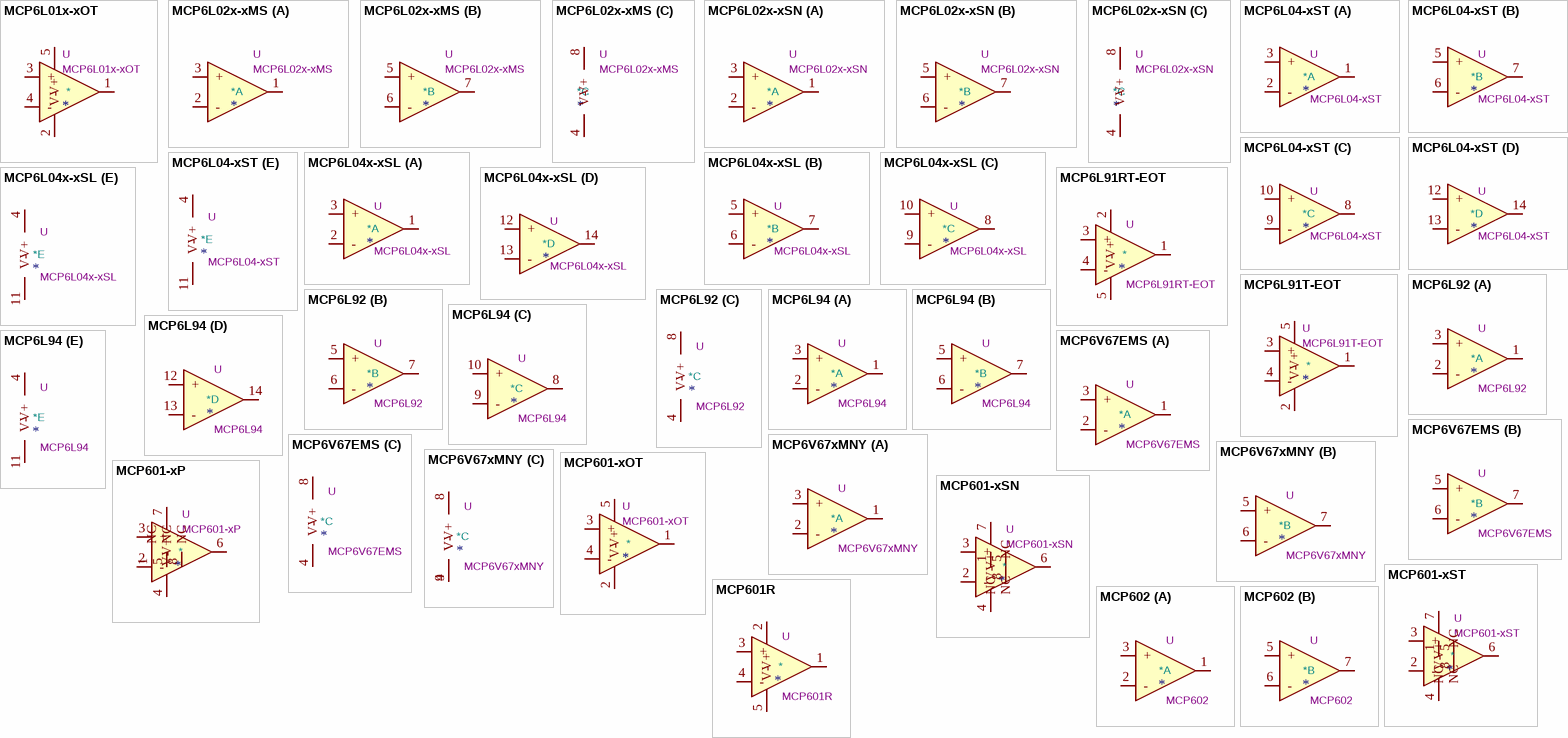
[diagram p9: symbols MCP6L01x-xOT to MCP602]

## MCP6L01x-xOT
designator *  value MCP6L01x-xOT  Reference: U
Single, 1 MHz, 85µA, Rail-to-Rail input and output, SOT-23-5; ki_keywords: opamp vfa rtr r2r; ki_fp_filters: SOT?23*; Footprint: Package_TO_SOT_SMD:SOT-23-5; Datasheet: http://ww1.microchip.com/downloads/en/devicedoc/22140b.pdf; Description_: Single, 1 MHz, 85µA, Rail-to-Rail input and output, SOT-23-5
pins: 1, 2 V-, 3 +, 4 -, 5 V+

## MCP6L02x-xMS
designator *  value MCP6L02x-xMS  Reference: U
Dual, 1 MHz, 85µA, Rail-to-Rail input and output, MSOP-8; ki_keywords: opamp vfa r2r rtr; ki_fp_filters: MSOP*3x3mm*P0.65mm*; Footprint: Package_SO:MSOP-8_3x3mm_P0.65mm; Datasheet: http://ww1.microchip.com/downloads/en/devicedoc/22140b.pdf; Description_: Dual, 1 MHz, 85µA, Rail-to-Rail input and output, MSOP-8
part A pins: 1, 2 -, 3 +
part B pins: 5 +, 6 -, 7
part C pins: 4 V-, 8 V+

## MCP6L02x-xSN
designator *  value MCP6L02x-xSN  Reference: U
Dual, 1 MHz, 85µA, Rail-to-Rail input and output SOIC-8; ki_keywords: opamp vfa r2r rtr; ki_fp_filters: SOIC*3.9x4.9mm*P1.27mm*; Footprint: Package_SO:SOIC-8_3.9x4.9mm_P1.27mm; Datasheet: http://ww1.microchip.com/downloads/en/devicedoc/22140b.pdf; Description_: Dual, 1 MHz, 85µA, Rail-to-Rail input and output SOIC-8
part A pins: 1, 2 -, 3 +
part B pins: 5 +, 6 -, 7
part C pins: 4 V-, 8 V+

## MCP6L04-xST
designator *  value MCP6L04-xST  Reference: U
Quad, 1 MHz, 85µA, Rail-to-Rail input and output, TSSOP-14; ki_keywords: opamp vfa r2r rtr; ki_fp_filters: TSSOP*4.4x5mm*P0.65mm*; Footprint: Package_SO:TSSOP-14_4.4x5mm_P0.65mm; Datasheet: http://ww1.microchip.com/downloads/en/devicedoc/22140b.pdf; Description_: Quad, 1 MHz, 85µA, Rail-to-Rail input and output, TSSOP-14
part A pins: 1, 2 -, 3 +
part B pins: 5 +, 6 -, 7
part C pins: 8, 9 -, 10 +
part D pins: 12 +, 13 -, 14
part E pins: 4 V+, 11 V-

## MCP6L04x-xSL
designator *  value MCP6L04x-xSL  Reference: U
Quad, 1 MHz, 85µA, Rail-to-Rail input and output, SOIC-14; ki_keywords: opamp vfa r2r rtr; ki_fp_filters: SOIC*3.9x8.7mm*P1.27mm*; Footprint: Package_SO:SOIC-14_3.9x8.7mm_P1.27mm; Datasheet: http://ww1.microchip.com/downloads/en/devicedoc/22140b.pdf; Description_: Quad, 1 MHz, 85µA, Rail-to-Rail input and output, SOIC-14
part A pins: 1, 2 -, 3 +
part B pins: 5 +, 6 -, 7
part C pins: 8, 9 -, 10 +
part D pins: 12 +, 13 -, 14
part E pins: 4 V+, 11 V-

## MCP6L91RT-EOT
designator *  value MCP6L91RT-EOT  Reference: U
10 MHz, 850 µA Op Amps, SOT-23-5; ki_keywords: single opamp; ki_fp_filters: SOT?23*; Footprint: Package_TO_SOT_SMD:SOT-23-5; Datasheet: https://ww1.microchip.com/downloads/aemDocuments/documents/MSLD/ProductDocuments/DataSheets/MCP6L91-1R-2-4-Data-Sheet-DS20002141C.pdf; Description_: 10 MHz, 850 µA Op Amps, SOT-23-5
pins: 1, 2 V+, 3 +, 4 -, 5 V-

## MCP6L91T-EOT
designator *  value MCP6L91T-EOT  Reference: U
10 MHz, 850 µA Op Amps, SOT-23-5; ki_keywords: single opamp; ki_fp_filters: SOT?23*; Footprint: Package_TO_SOT_SMD:SOT-23-5; Datasheet: http://ww1.microchip.com/downloads/en/DeviceDoc/22141b.pdf; Description_: 10 MHz, 850 µA Op Amps, SOT-23-5
pins: 1, 2 V-, 3 +, 4 -, 5 V+

## MCP6L92
designator *  value MCP6L92  Reference: U
10 MHz, 850 µA Op Amps, SOIC-8/MSOP-8; ki_keywords: dual opamp; ki_fp_filters: SOIC*3.9x4.9mm*P1.27mm* DIP*W7.62mm* TO*99* OnSemi*Micro8* TSSOP*3x3mm*P0.65mm* TSSOP*4.4x3mm*P0.65mm* MSOP*3x3mm*P0.65mm* SSOP*3.9x4.9mm*P0.635mm* LFCSP*2x2mm*P0.5mm* *SIP* SOIC*5.3x6.2mm*P1.27mm*; Datasheet: http://ww1.microchip.com/downloads/en/DeviceDoc/22141b.pdf; Description_: 10 MHz, 850 µA Op Amps, SOIC-8/MSOP-8
part A pins: 1, 2 -, 3 +
part B pins: 5 +, 6 -, 7
part C pins: 4 V-, 8 V+

## MCP6L94
designator *  value MCP6L94  Reference: U
10 MHz, 850 µA Op Amps, SOIC-14/TSSOP-14; ki_keywords: quad opamp; ki_fp_filters: SOIC*3.9x8.7mm*P1.27mm* DIP*W7.62mm* TSSOP*4.4x5mm*P0.65mm* SSOP*5.3x6.2mm*P0.65mm* MSOP*3x3mm*P0.5mm*; Datasheet: http://ww1.microchip.com/downloads/en/DeviceDoc/22141b.pdf; Description_: 10 MHz, 850 µA Op Amps, SOIC-14/TSSOP-14
part A pins: 1, 2 -, 3 +
part B pins: 5 +, 6 -, 7
part C pins: 8, 9 -, 10 +
part D pins: 12 +, 13 -, 14
part E pins: 4 V+, 11 V-

## MCP6V67EMS
designator *  value MCP6V67EMS  Reference: U
Dual Operational Amplifiers, Zero-Drift, 80 kHz Bandwidth, 1.8V to 5.5V, Rail-to-Rail, MSOP-8; ki_keywords: dual opamp zero drift; ki_fp_filters: SOIC*3.9x4.9mm*P1.27mm* DIP*W7.62mm* TO*99* OnSemi*Micro8* TSSOP*3x3mm*P0.65mm* TSSOP*4.4x3mm*P0.65mm* MSOP*3x3mm*P0.65mm* SSOP*3.9x4.9mm*P0.635mm* LFCSP*2x2mm*P0.5mm* *SIP* SOIC*5.3x6.2mm*P1.27mm*; Datasheet: http://ww1.microchip.com/downloads/en/DeviceDoc/MCP6V66-Family-Data-Sheet-DS20006266A.pdf; Description_: Dual Operational Amplifiers, Zero-Drift, 80 kHz Bandwidth, 1.8V to 5.5V, Rail-to-Rail, MSOP-8
part A pins: 1, 2 -, 3 +
part B pins: 5 +, 6 -, 7
part C pins: 4 V-, 8 V+

## MCP6V67xMNY
designator *  value MCP6V67xMNY  Reference: U
Dual Operational Amplifiers, Zero-Drift, 80 kHz Bandwidth, 1.8V to 5.5V, Rail-to-Rail, TDFN-8; ki_keywords: dual opamp zero drift; ki_fp_filters: TDFN*1EP*3x2mm*P0.5mm*; Footprint: Package_DFN_QFN:TDFN-8-1EP_3x2mm_P0.5mm_EP1.3x1.4mm; Datasheet: http://ww1.microchip.com/downloads/en/DeviceDoc/MCP6V66-Family-Data-Sheet-DS20006266A.pdf; Description_: Dual Operational Amplifiers, Zero-Drift, 80 kHz Bandwidth, 1.8V to 5.5V, Rail-to-Rail, TDFN-8
part A pins: 1, 2 -, 3 +
part B pins: 5 +, 6 -, 7
part C pins: 4 V-, 8 V+, 9 V-

## MCP601-xOT
designator *  value MCP601-xOT  Reference: U
Single 2.7V to 6.0V Single Supply CMOS Op Amps, SOT-23-5; ki_keywords: single opamp; ki_fp_filters: SOT?23*; Footprint: Package_TO_SOT_SMD:SOT-23-5; Datasheet: http://ww1.microchip.com/downloads/en/DeviceDoc/21314g.pdf; Description_: Single 2.7V to 6.0V Single Supply CMOS Op Amps, SOT-23-5
pins: 1, 2 V-, 3 +, 4 -, 5 V+

## MCP601-xP
designator *  value MCP601-xP  Reference: U
Single 2.7V to 6.0V Single Supply CMOS Op Amps, DIP-8; ki_keywords: single opamp; ki_fp_filters: DIP*W7.62mm*; Footprint: Package_DIP:DIP-8_W7.62mm; Datasheet: http://ww1.microchip.com/downloads/en/DeviceDoc/21314g.pdf; Description_: Single 2.7V to 6.0V Single Supply CMOS Op Amps, DIP-8
pins: 1 NC, 2 -, 3 +, 4 V-, 5 NC, 6, 7 V+, 8 NC

## MCP601-xSN
designator *  value MCP601-xSN  Reference: U
Single 2.7V to 6.0V Single Supply CMOS Op Amps, SOIC-8; ki_keywords: single opamp; ki_fp_filters: SOIC*3.9x4.9mm*P1.27mm*; Footprint: Package_SO:SOIC-8_3.9x4.9mm_P1.27mm; Datasheet: http://ww1.microchip.com/downloads/en/DeviceDoc/21314g.pdf; Description_: Single 2.7V to 6.0V Single Supply CMOS Op Amps, SOIC-8
pins: 1 NC, 2 -, 3 +, 4 V-, 5 NC, 6, 7 V+, 8 NC

## MCP601-xST
designator *  value MCP601-xST  Reference: U
Single 2.7V to 6.0V Single Supply CMOS Op Amps, TSSOP-8; ki_keywords: single opamp; ki_fp_filters: TSSOP*4.4x3mm*P0.65mm*; Footprint: Package_SO:TSSOP-8_4.4x3mm_P0.65mm; Datasheet: http://ww1.microchip.com/downloads/en/DeviceDoc/21314g.pdf; Description_: Single 2.7V to 6.0V Single Supply CMOS Op Amps, TSSOP-8
pins: 1 NC, 2 -, 3 +, 4 V-, 5 NC, 6, 7 V+, 8 NC

## MCP601R
designator *  value MCP601R  Reference: U
Single 2.7V to 6.0V Single Supply CMOS Op Amps, SOT-23-5; ki_keywords: single opamp; ki_fp_filters: SOT?23*; Footprint: Package_TO_SOT_SMD:SOT-23-5; Datasheet: https://ww1.microchip.com/downloads/en/DeviceDoc/21314g.pdf; Description_: Single 2.7V to 6.0V Single Supply CMOS Op Amps, SOT-23-5
pins: 1, 2 V+, 3 +, 4 -, 5 V-

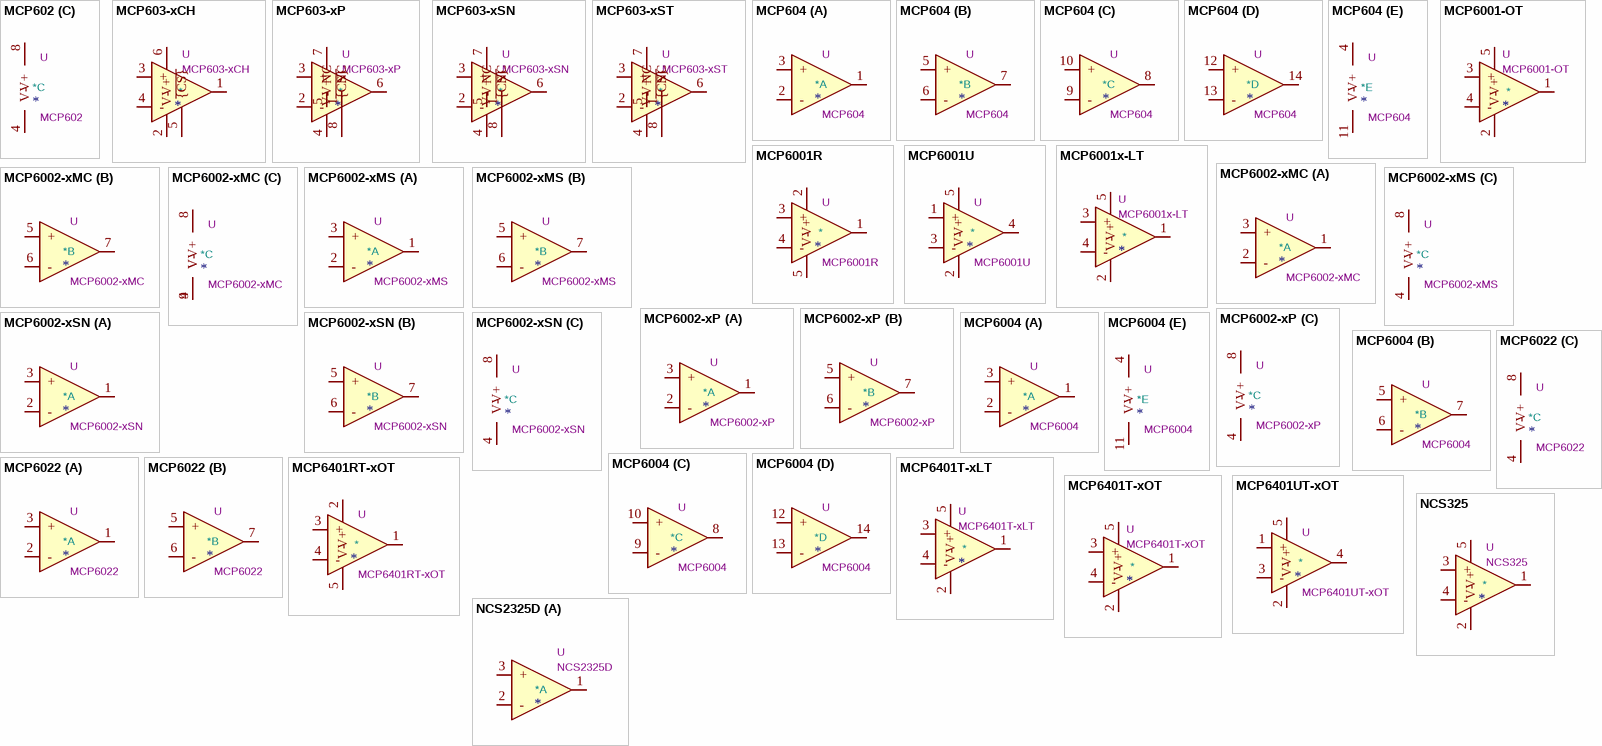
[diagram p10: symbols MCP602 to NCS2325D]

## MCP602
designator *  value MCP602  Reference: U
Dual 2.7V to 6.0V Single Supply CMOS Op Amps, DIP-8/SOIC-8/TSSOP-8; ki_keywords: dual opamp; ki_fp_filters: SOIC*3.9x4.9mm*P1.27mm* DIP*W7.62mm* TO*99* OnSemi*Micro8* TSSOP*3x3mm*P0.65mm* TSSOP*4.4x3mm*P0.65mm* MSOP*3x3mm*P0.65mm* SSOP*3.9x4.9mm*P0.635mm* LFCSP*2x2mm*P0.5mm* *SIP* SOIC*5.3x6.2mm*P1.27mm*; Datasheet: http://ww1.microchip.com/downloads/en/DeviceDoc/21314g.pdf; Description_: Dual 2.7V to 6.0V Single Supply CMOS Op Amps, DIP-8/SOIC-8/TSSOP-8
part A pins: 1, 2 -, 3 +
part B pins: 5 +, 6 -, 7
part C pins: 4 V-, 8 V+

## MCP603-xCH
designator *  value MCP603-xCH  Reference: U
Single 2.7V to 6.0V Single Supply CMOS Op Amps, with Chip Select, SOT-23-6; ki_keywords: single opamp; ki_fp_filters: SOT?23*; Footprint: Package_TO_SOT_SMD:SOT-23-6; Datasheet: http://ww1.microchip.com/downloads/en/DeviceDoc/21314g.pdf; Description_: Single 2.7V to 6.0V Single Supply CMOS Op Amps, with Chip Select, SOT-23-6
pins: 1, 2 V-, 3 +, 4 -, 5 ~{{CS}}, 6 V+

## MCP603-xP
designator *  value MCP603-xP  Reference: U
Single 2.7V to 6.0V Single Supply CMOS Op Amps, with Chip Select, DIP-8; ki_keywords: single opamp; ki_fp_filters: DIP*W7.62mm* SOIC*3.9x4.9mm*P1.27mm* TSSOP*4.4x3mm*P0.65mm*; Datasheet: http://ww1.microchip.com/downloads/en/DeviceDoc/21314g.pdf; Description_: Single 2.7V to 6.0V Single Supply CMOS Op Amps, with Chip Select, DIP-8
pins: 1 NC, 2 -, 3 +, 4 V-, 5 NC, 6, 7 V+, 8 ~{{CS}}

## MCP603-xSN
designator *  value MCP603-xSN  Reference: U
Single 2.7V to 6.0V Single Supply CMOS Op Amps, with Chip Select, SOIC-8; ki_keywords: single opamp; ki_fp_filters: DIP*W7.62mm* SOIC*3.9x4.9mm*P1.27mm* TSSOP*4.4x3mm*P0.65mm*; Datasheet: http://ww1.microchip.com/downloads/en/DeviceDoc/21314g.pdf; Description_: Single 2.7V to 6.0V Single Supply CMOS Op Amps, with Chip Select, SOIC-8
pins: 1 NC, 2 -, 3 +, 4 V-, 5 NC, 6, 7 V+, 8 ~{{CS}}

## MCP603-xST
designator *  value MCP603-xST  Reference: U
Single 2.7V to 6.0V Single Supply CMOS Op Amps, with Chip Select, TSSOP-8; ki_keywords: single opamp; ki_fp_filters: DIP*W7.62mm* SOIC*3.9x4.9mm*P1.27mm* TSSOP*4.4x3mm*P0.65mm*; Datasheet: http://ww1.microchip.com/downloads/en/DeviceDoc/21314g.pdf; Description_: Single 2.7V to 6.0V Single Supply CMOS Op Amps, with Chip Select, TSSOP-8
pins: 1 NC, 2 -, 3 +, 4 V-, 5 NC, 6, 7 V+, 8 ~{{CS}}

## MCP604
designator *  value MCP604  Reference: U
Quad 2.7V to 6.0V Single Supply CMOS Op Amps, DIP-14/SOIC-14/TSSOP-14; ki_keywords: quad opamp; ki_fp_filters: SOIC*3.9x8.7mm*P1.27mm* DIP*W7.62mm* TSSOP*4.4x5mm*P0.65mm* SSOP*5.3x6.2mm*P0.65mm* MSOP*3x3mm*P0.5mm*; Datasheet: http://ww1.microchip.com/downloads/en/DeviceDoc/21314g.pdf; Description_: Quad 2.7V to 6.0V Single Supply CMOS Op Amps, DIP-14/SOIC-14/TSSOP-14
part A pins: 1, 2 -, 3 +
part B pins: 5 +, 6 -, 7
part C pins: 8, 9 -, 10 +
part D pins: 12 +, 13 -, 14
part E pins: 4 V+, 11 V-

## MCP6001-OT
designator *  value MCP6001-OT  Reference: U
1MHz, Low-Power Op Amp, SOT-23-5; ki_keywords: single opamp; ki_fp_filters: SOT?23*; Footprint: Package_TO_SOT_SMD:SOT-23-5; Datasheet: https://ww1.microchip.com/downloads/en/DeviceDoc/MCP6001-1R-1U-2-4-1-MHz-Low-Power-Op-Amp-DS20001733L.pdf; Description_: 1MHz, Low-Power Op Amp, SOT-23-5
pins: 1, 2 V-, 3 +, 4 -, 5 V+

## MCP6001R
designator *  value MCP6001R  Reference: U
1MHz, Low-Power Op Amp, SOT-23-5; ki_keywords: single opamp; ki_fp_filters: SOT?23*; Footprint: Package_TO_SOT_SMD:SOT-23-5; Datasheet: https://ww1.microchip.com/downloads/en/DeviceDoc/MCP6001-1R-1U-2-4-1-MHz-Low-Power-Op-Amp-DS20001733L.pdf; Description_: 1MHz, Low-Power Op Amp, SOT-23-5
pins: 1, 2 V+, 3 +, 4 -, 5 V-

## MCP6001U
designator *  value MCP6001U  Reference: U
1MHz, Low-Power Op Amp, SOT-23-5; ki_keywords: single opamp; ki_fp_filters: SOT?23* *SC*70*; Datasheet: https://ww1.microchip.com/downloads/en/DeviceDoc/MCP6001-1R-1U-2-4-1-MHz-Low-Power-Op-Amp-DS20001733L.pdf; Description_: 1MHz, Low-Power Op Amp, SOT-23-5
pins: 1 +, 2 V-, 3 -, 4, 5 V+

## MCP6001x-LT
designator *  value MCP6001x-LT  Reference: U
1 MHz, Low-Power Op Amp, SC-70-5; ki_keywords: single opamp; ki_fp_filters: *SC?70*; Footprint: Package_TO_SOT_SMD:SOT-353_SC-70-5; Datasheet: https://ww1.microchip.com/downloads/en/DeviceDoc/MCP6001-1R-1U-2-4-1-MHz-Low-Power-Op-Amp-DS20001733L.pdf; Description_: 1 MHz, Low-Power Op Amp, SC-70-5
pins: 1, 2 V-, 3 +, 4 -, 5 V+

## MCP6002-xMC
designator *  value MCP6002-xMC  Reference: U
1MHz, Low-Power Op Amp, DFN-8; ki_keywords: dual opamp; ki_fp_filters: DFN*1EP*3x2mm*P0.5mm*; Footprint: Package_DFN_QFN:DFN-8-1EP_3x2mm_P0.5mm_EP1.75x1.45mm; Datasheet: http://ww1.microchip.com/downloads/en/DeviceDoc/21733j.pdf; Description_: 1MHz, Low-Power Op Amp, DFN-8
part A pins: 1, 2 -, 3 +
part B pins: 5 +, 6 -, 7
part C pins: 4 V-, 8 V+, 9 V-

## MCP6002-xMS
designator *  value MCP6002-xMS  Reference: U
1MHz, Low-Power Op Amp, MSOP-8; ki_keywords: dual opamp; ki_fp_filters: SOIC*3.9x4.9mm*P1.27mm* DIP*W7.62mm* TO*99* OnSemi*Micro8* TSSOP*3x3mm*P0.65mm* TSSOP*4.4x3mm*P0.65mm* MSOP*3x3mm*P0.65mm* SSOP*3.9x4.9mm*P0.635mm* LFCSP*2x2mm*P0.5mm* *SIP* SOIC*5.3x6.2mm*P1.27mm*; Datasheet: http://ww1.microchip.com/downloads/en/DeviceDoc/21733j.pdf; Description_: 1MHz, Low-Power Op Amp, MSOP-8
part A pins: 1, 2 -, 3 +
part B pins: 5 +, 6 -, 7
part C pins: 4 V-, 8 V+

## MCP6002-xP
designator *  value MCP6002-xP  Reference: U
1MHz, Low-Power Op Amp, DIP-8; ki_keywords: dual opamp; ki_fp_filters: SOIC*3.9x4.9mm*P1.27mm* DIP*W7.62mm* TO*99* OnSemi*Micro8* TSSOP*3x3mm*P0.65mm* TSSOP*4.4x3mm*P0.65mm* MSOP*3x3mm*P0.65mm* SSOP*3.9x4.9mm*P0.635mm* LFCSP*2x2mm*P0.5mm* *SIP* SOIC*5.3x6.2mm*P1.27mm*; Datasheet: http://ww1.microchip.com/downloads/en/DeviceDoc/21733j.pdf; Description_: 1MHz, Low-Power Op Amp, DIP-8
part A pins: 1, 2 -, 3 +
part B pins: 5 +, 6 -, 7
part C pins: 4 V-, 8 V+

## MCP6002-xSN
designator *  value MCP6002-xSN  Reference: U
1MHz, Low-Power Op Amp, SOIC-8; ki_keywords: dual opamp; ki_fp_filters: SOIC*3.9x4.9mm*P1.27mm* DIP*W7.62mm* TO*99* OnSemi*Micro8* TSSOP*3x3mm*P0.65mm* TSSOP*4.4x3mm*P0.65mm* MSOP*3x3mm*P0.65mm* SSOP*3.9x4.9mm*P0.635mm* LFCSP*2x2mm*P0.5mm* *SIP* SOIC*5.3x6.2mm*P1.27mm*; Datasheet: http://ww1.microchip.com/downloads/en/DeviceDoc/21733j.pdf; Description_: 1MHz, Low-Power Op Amp, SOIC-8
part A pins: 1, 2 -, 3 +
part B pins: 5 +, 6 -, 7
part C pins: 4 V-, 8 V+

## MCP6004
designator *  value MCP6004  Reference: U
1MHz, Low-Power Op Amp, DIP-14/SOIC-14/TSSOP-14; ki_keywords: quad opamp; ki_fp_filters: SOIC*3.9x8.7mm*P1.27mm* DIP*W7.62mm* TSSOP*4.4x5mm*P0.65mm* SSOP*5.3x6.2mm*P0.65mm* MSOP*3x3mm*P0.5mm*; Datasheet: http://ww1.microchip.com/downloads/en/DeviceDoc/21733j.pdf; Description_: 1MHz, Low-Power Op Amp, DIP-14/SOIC-14/TSSOP-14
part A pins: 1, 2 -, 3 +
part B pins: 5 +, 6 -, 7
part C pins: 8, 9 -, 10 +
part D pins: 12 +, 13 -, 14
part E pins: 4 V+, 11 V-

## MCP6022
designator *  value MCP6022  Reference: U
Dual Operational Amplifiers, Rail-to-Rail Input/Output, DIP-8/SOIC-8/TSSOP-8; ki_keywords: dual opamp rail-to-rail; ki_fp_filters: SOIC*3.9x4.9mm*P1.27mm* DIP*W7.62mm* TO*99* OnSemi*Micro8* TSSOP*3x3mm*P0.65mm* TSSOP*4.4x3mm*P0.65mm* MSOP*3x3mm*P0.65mm* SSOP*3.9x4.9mm*P0.635mm* LFCSP*2x2mm*P0.5mm* *SIP* SOIC*5.3x6.2mm*P1.27mm*; Datasheet: http://ww1.microchip.com/downloads/en/devicedoc/20001685e.pdf; Description_: Dual Operational Amplifiers, Rail-to-Rail Input/Output, DIP-8/SOIC-8/TSSOP-8
part A pins: 1, 2 -, 3 +
part B pins: 5 +, 6 -, 7
part C pins: 4 V-, 8 V+

## MCP6401RT-xOT
designator *  value MCP6401RT-xOT  Reference: U
1 MHz, 45 µA Op Amps, SOT-23-5; ki_keywords: single opamp; ki_fp_filters: SOT?23*; Footprint: Package_TO_SOT_SMD:SOT-23-5; Datasheet: http://ww1.microchip.com/downloads/en/devicedoc/22229d.pdf; Description_: 1 MHz, 45 µA Op Amps, SOT-23-5
pins: 1, 2 V+, 3 +, 4 -, 5 V-

## MCP6401T-xLT
designator *  value MCP6401T-xLT  Reference: U
1 MHz, 45 µA Op Amps, SC-70-5; ki_keywords: single opamp; ki_fp_filters: *SC?70*; Footprint: Package_TO_SOT_SMD:SOT-353_SC-70-5; Datasheet: http://ww1.microchip.com/downloads/en/devicedoc/22229d.pdf; Description_: 1 MHz, 45 µA Op Amps, SC-70-5
pins: 1, 2 V-, 3 +, 4 -, 5 V+

## MCP6401T-xOT
designator *  value MCP6401T-xOT  Reference: U
1 MHz, 45 µA Op Amps, SOT-23-5; ki_keywords: single opamp; ki_fp_filters: SOT?23*; Footprint: Package_TO_SOT_SMD:SOT-23-5; Datasheet: http://ww1.microchip.com/downloads/en/devicedoc/22229d.pdf; Description_: 1 MHz, 45 µA Op Amps, SOT-23-5
pins: 1, 2 V-, 3 +, 4 -, 5 V+

## MCP6401UT-xOT
designator *  value MCP6401UT-xOT  Reference: U
1 MHz, 45 µA Op Amps, SOT-23-5; ki_keywords: single opamp; ki_fp_filters: SOT?23* *SC*70*; Datasheet: http://ww1.microchip.com/downloads/en/devicedoc/22229d.pdf; Description_: 1 MHz, 45 µA Op Amps, SOT-23-5
pins: 1 +, 2 V-, 3 -, 4, 5 V+

## NCS325
designator *  value NCS325  Reference: U
Single operational amplifier, 50uV Offset, 0.25uV/C, 35uA Zero-Drift, SOT-23-5; ki_keywords: single opamp low-power; ki_fp_filters: SOT?23*; Footprint: Package_TO_SOT_SMD:SOT-23-5; Datasheet: http://www.onsemi.com/pub/Collateral/NCS325-D.PDF; Description_: Single operational amplifier, 50uV Offset, 0.25uV/C, 35uA Zero-Drift, SOT-23-5
pins: 1, 2 V-, 3 +, 4 -, 5 V+

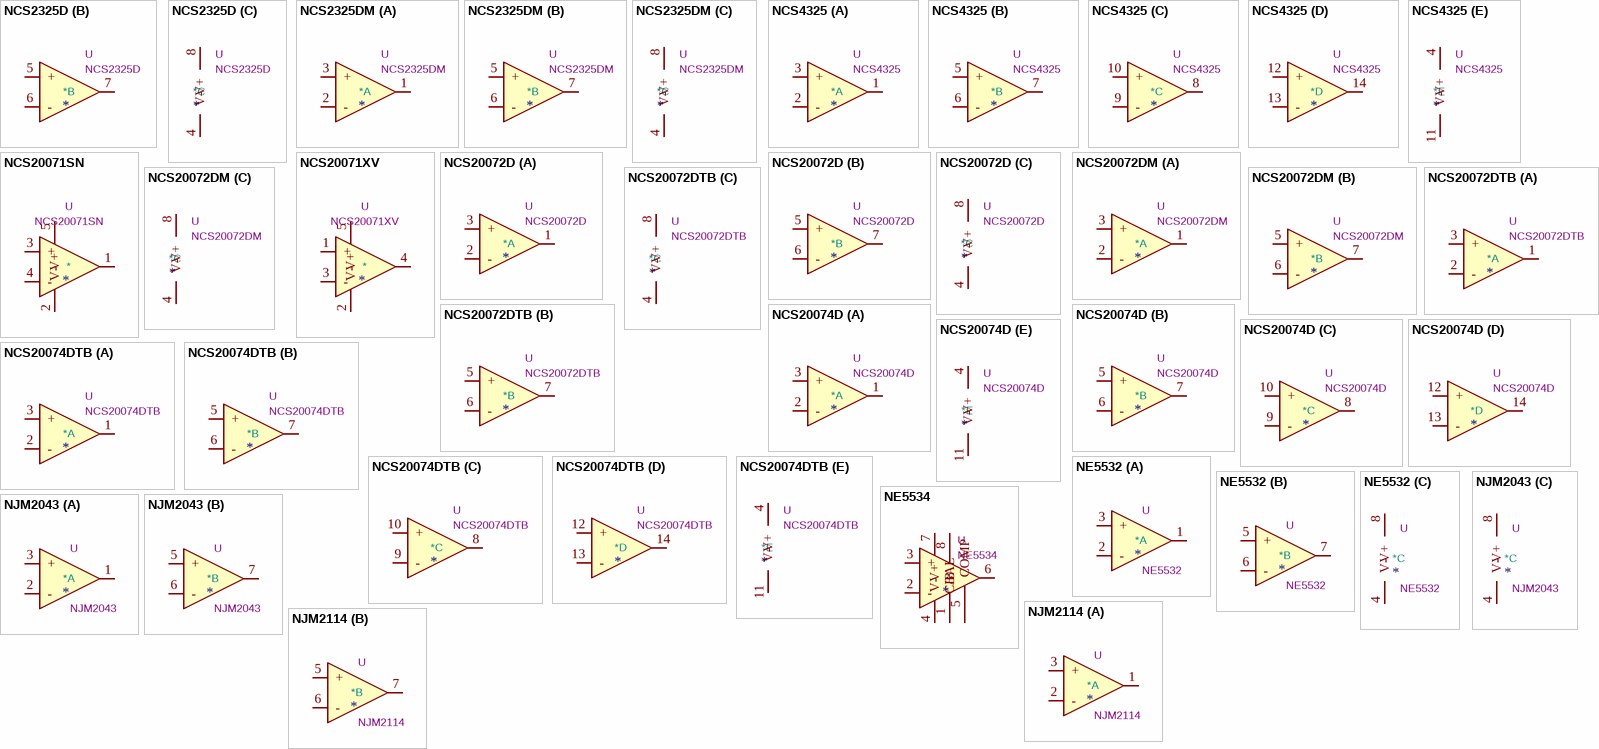
[diagram p11: symbols NCS2325D to NJM2114]

## NCS2325D
designator *  value NCS2325D  Reference: U
Dual operational amplifier, 50uV Offset, 0.25uV/C, 35uA Zero-Drift, SOIC-8; ki_keywords: dual opamp low-power; ki_fp_filters: SOIC*3.9x4.9mm*P1.27mm*; Footprint: Package_SO:SOIC-8_3.9x4.9mm_P1.27mm; Datasheet: http://www.onsemi.com/PowerSolutions/document/NCS325-D.PDF; Description_: Dual operational amplifier, 50uV Offset, 0.25uV/C, 35uA Zero-Drift, SOIC-8
part A pins: 1, 2 -, 3 +
part B pins: 5 +, 6 -, 7
part C pins: 4 V-, 8 V+

## NCS2325DM
designator *  value NCS2325DM  Reference: U
Dual operational amplifier, 50uV Offset, 0.25uV/C, 35uA Zero-Drift, MSOP-8; ki_keywords: dual opamp low-power; ki_fp_filters: MSOP*3x3mm*P0.65mm*; Footprint: Package_SO:MSOP-8_3x3mm_P0.65mm; Datasheet: http://www.onsemi.com/PowerSolutions/document/NCS325-D.PDF; Description_: Dual operational amplifier, 50uV Offset, 0.25uV/C, 35uA Zero-Drift, MSOP-8
part A pins: 1, 2 -, 3 +
part B pins: 5 +, 6 -, 7
part C pins: 4 V-, 8 V+

## NCS4325
designator *  value NCS4325  Reference: U
Quad operational amplifier, 50uV Offset, 0.25uV/C, 35uA Zero-Drift, SOIC-14; ki_keywords: quad opamp low-power; ki_fp_filters: SOIC*3.9x8.7mm*P1.27mm*; Footprint: Package_SO:SOIC-14_3.9x8.7mm_P1.27mm; Datasheet: http://www.onsemi.com/pub/Collateral/NCS325-D.PDF; Description_: Quad operational amplifier, 50uV Offset, 0.25uV/C, 35uA Zero-Drift, SOIC-14
part A pins: 1, 2 -, 3 +
part B pins: 5 +, 6 -, 7
part C pins: 8, 9 -, 10 +
part D pins: 12 +, 13 -, 14
part E pins: 4 V+, 11 V-